# Altium schematic symbol library TRISECT_Custom.SchLib: 9 symbols
Pins are listed as number, name and electrical type; pins without a type are passive.

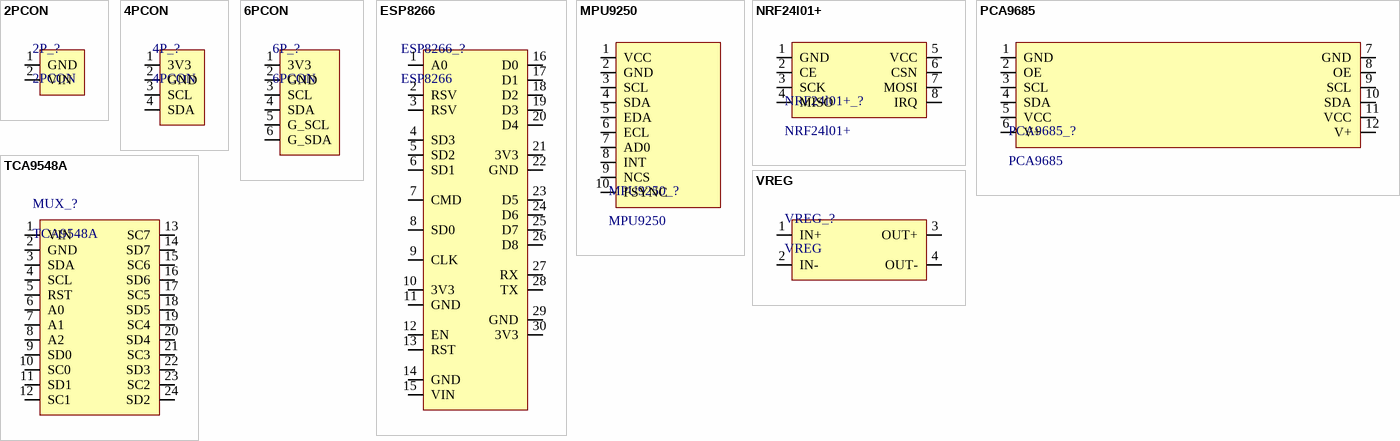
[diagram p0: symbols 2PCON to VREG]

## 2PCON
designator 2P_?
2 pin connector
footprint 2PCON (2 pin connector)
pins: 1 GND, 2 VIN

## 4PCON
designator 4P_?
4 pin connector
footprint 4PCON (4 pin connector)
pins: 1 3V3, 2 GND, 3 SCL, 4 SDA

## 6PCON
designator 6P_?
6 pin connector
footprint 6PCON (6 pin connector)
pins: 1 3V3, 2 GND, 3 SCL, 4 SDA, 5 G_SCL, 6 G_SDA

## ESP8266
designator ESP8266_?
Basic pinout for ESP8266 (NodeMCU)
footprint ESP8266 (ESP8266 Basic Pinned Through Hole (NodeMCU))
pins: 1 A0, 2 RSV, 3 RSV, 4 SD3, 5 SD2, 6 SD1, 7 CMD, 8 SD0, 9 CLK, 10 3V3, 11 GND, 12 EN, 13 RST, 14 GND, 15 VIN, 16 D0, 17 D1, 18 D2, 19 D3, 20 D4, 21 3V3, 22 GND, 23 D5, 24 D6, 25 D7, 26 D8, 27 RX, 28 TX, 29 GND, 30 3V3

## MPU9250
designator MPU9250_?
MPU9250 basic pinout
footprint MPU9250 (Basic pinout for MPU9250)
pins: 1 VCC, 2 GND, 3 SCL, 4 SDA, 5 EDA, 6 ECL, 7 AD0, 8 INT, 9 NCS, 10 FSYNC

## NRF24l01+
designator NRF24l01+_?
NRF24l01+ basic pinout
footprint NRF24l01+ (NRF24l01+ footprint)
pins: 1 GND, 2 CE, 3 SCK, 4 MISO, 5 VCC, 6 CSN, 7 MOSI, 8 IRQ

## PCA9685
designator PCA9685_?
PCA9685 PWM Servo Driver
footprint PCA9685
pins: 1 GND, 2 OE, 3 SCL, 4 SDA, 5 VCC, 6 V+, 7 GND, 8 OE, 9 SCL, 10 SDA, 11 VCC, 12 V+

## TCA9548A
designator MUX_?
TCA9548A multiplexer 1:8 basic pinout
footprint TCA9548A (TCA9548A basic pinout)
pins: 1 VIN, 2 GND, 3 SDA, 4 SCL, 5 RST, 6 A0, 7 A1, 8 A2, 9 SD0, 10 SC0, 11 SD1, 12 SC1, 13 SC7, 14 SD7, 15 SC6, 16 SD6, 17 SC5, 18 SD5, 19 SC4, 20 SD4, 21 SC3, 22 SD3, 23 SC2, 24 SD2

## VREG
designator VREG_?
Voltage Regulator - basic pinout
footprint VREG (Voltage regulator)
pins: 1 IN+, 2 IN-, 3 OUT+, 4 OUT-